# Altium footprint library PCB Footprints.PcbLib: 316 footprints (part 8 of 21)
Each footprint in its own frame and in the unit in brackets; x right, y up, seen from the top. Pads: shape width x height; smd on the part's side, far side on the other; paste and mask are expansions set on the pad; w line width, h text height; cw(c..) or ccw(c..) is an arc to the next point about the centre after c.
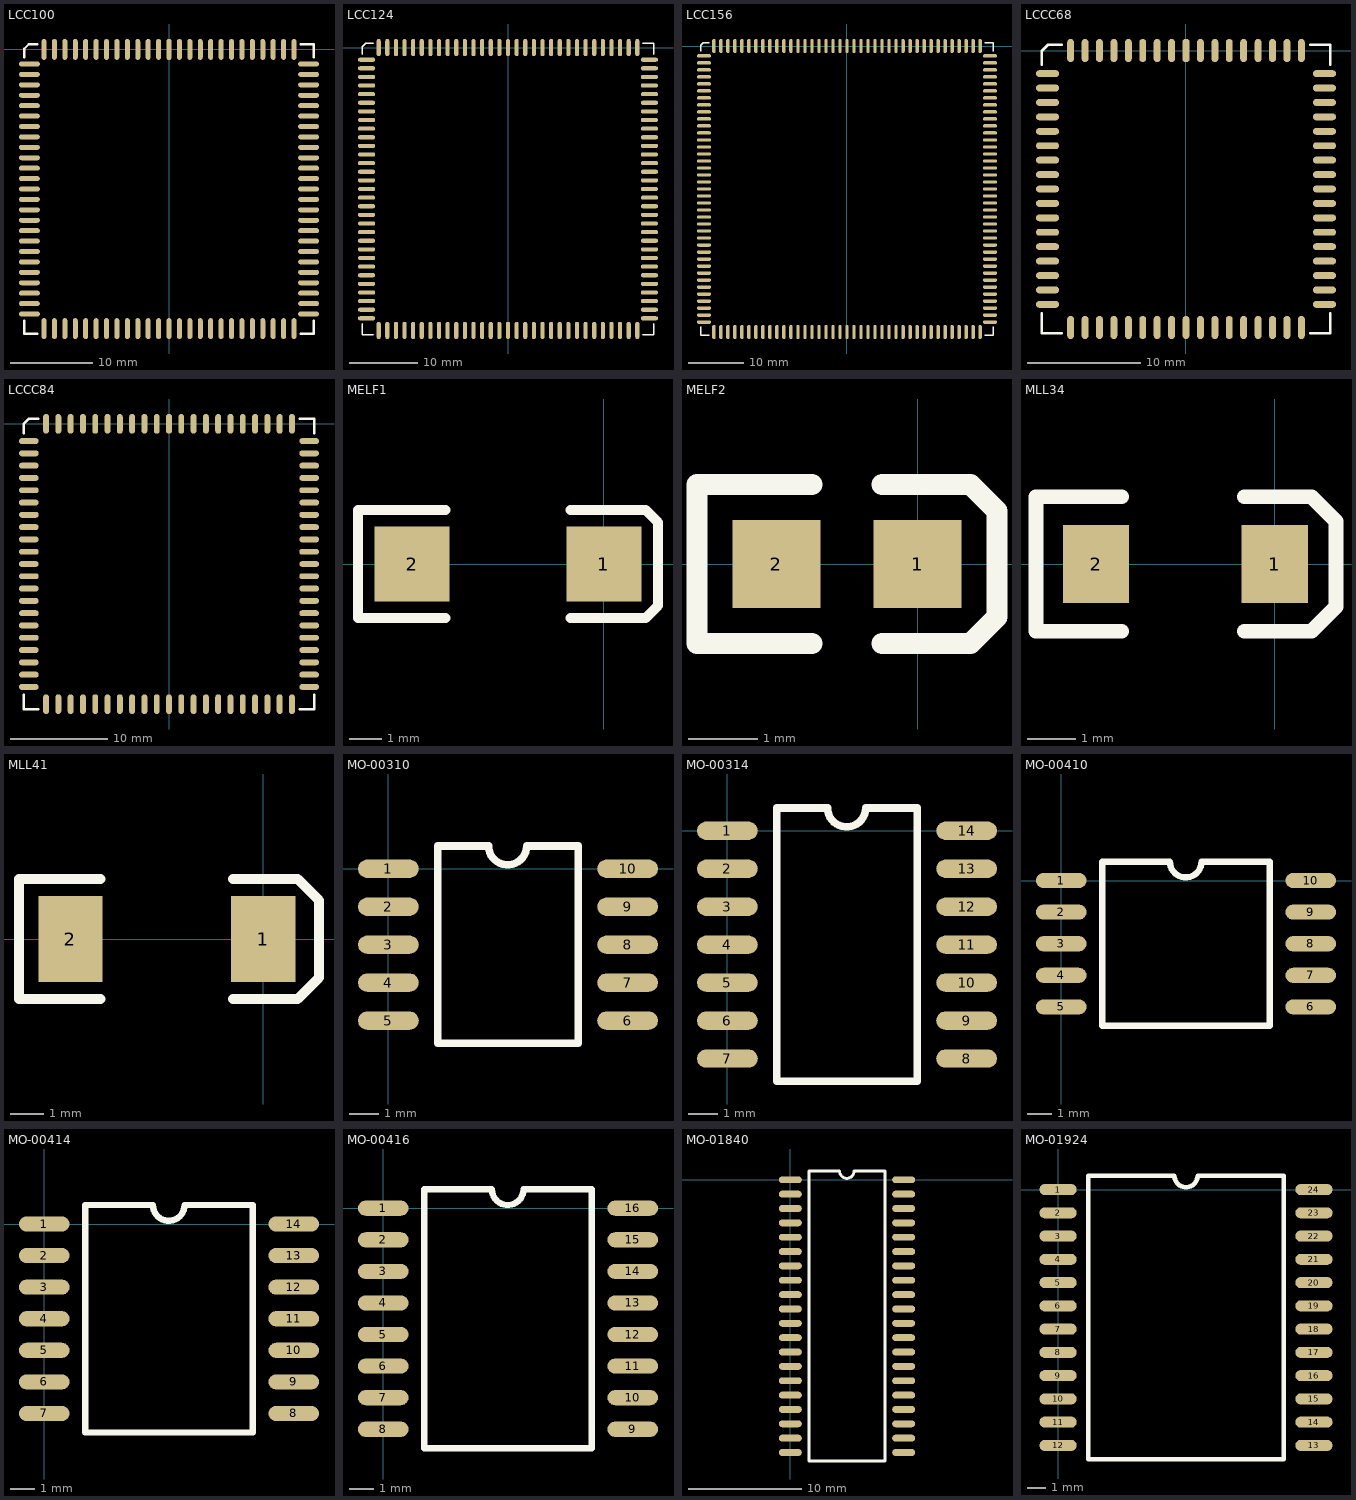
[diagram p7: the footprints below, top view; thin cyan lines are the x and y axes]

## LCC100 [mil]
pads (100):
  oct 24x100 smd: 1(0,0)
  oval 24x100 smd: 2(-50,0) 3(-100,0) 4(-150,0) 5(-200,0) 6(-250,0) 7(-300,0) 8(-350,0) 9(-400,0) 10(-450,0) 11(-500,0) 12(-550,0) 13(-600,0) 39(-600,-1340) 40(-550,-1340) 41(-500,-1340) 42(-450,-1340) 43(-400,-1340) 44(-350,-1340) 45(-300,-1340) 46(-250,-1340) 47(-200,-1340) 48(-150,-1340) 49(-100,-1340) 50(-50,-1340) 51(0,-1340) 52(50,-1340) 53(100,-1340) 54(150,-1340) 55(200,-1340) 56(250,-1340) 57(300,-1340) 58(350,-1340) 59(400,-1340) 60(450,-1340) 61(500,-1340) 62(550,-1340) 63(600,-1340) 89(600,0) 90(550,0) 91(500,0) 92(450,0) 93(400,0) 94(350,0) 95(300,0) 96(250,0) 97(200,0) 98(150,0) 99(100,0) 100(50,0)
  oval 100x24 smd: 14(-670,-70) 15(-670,-120) 16(-670,-170) 17(-670,-220) 18(-670,-270) 19(-670,-320) 20(-670,-370) 21(-670,-420) 22(-670,-470) 23(-670,-520) 24(-670,-570) 25(-670,-620) 26(-670,-670) 27(-670,-720) 28(-670,-770) 29(-670,-820) 30(-670,-870) 31(-670,-920) 32(-670,-970) 33(-670,-1020) 34(-670,-1070) 35(-670,-1120) 36(-670,-1170) 37(-670,-1220) 38(-670,-1270) 64(670,-1270) 65(670,-1220) 66(670,-1170) 67(670,-1120) 68(670,-1070) 69(670,-1020) 70(670,-970) 71(670,-920) 72(670,-870) 73(670,-820) 74(670,-770) 75(670,-720) 76(670,-670) 77(670,-620) 78(670,-570) 79(670,-520) 80(670,-470) 81(670,-420) 82(670,-370) 83(670,-320) 84(670,-270) 85(670,-220) 86(670,-170) 87(670,-120) 88(670,-70)
TopOverlay:
  lines w10: -695,-1302 -695,-1365 -632,-1365 ; -695,-38 -695,4 -674,25 -632,25 ; 632,-1365 695,-1365 695,-1302 ; 632,25 695,25 695,-38

## LCC124 [mil]
pads (124):
  oct 24x100 smd: 1(0,0)
  oval 24x100 smd: 2(-50,0) 3(-100,0) 4(-150,0) 5(-200,0) 6(-250,0) 7(-300,0) 8(-350,0) 9(-400,0) 10(-450,0) 11(-500,0) 12(-550,0) 13(-600,0) 14(-650,0) 15(-700,0) 16(-750,0) 48(-750,-1640) 49(-700,-1640) 50(-650,-1640) 51(-600,-1640) 52(-550,-1640) 53(-500,-1640) 54(-450,-1640) 55(-400,-1640) 56(-350,-1640) 57(-300,-1640) 58(-250,-1640) 59(-200,-1640) 60(-150,-1640) 61(-100,-1640) 62(-50,-1640) 63(0,-1640) 64(50,-1640) 65(100,-1640) 66(150,-1640) 67(200,-1640) 68(250,-1640) 69(300,-1640) 70(350,-1640) 71(400,-1640) 72(450,-1640) 73(500,-1640) 74(550,-1640) 75(600,-1640) 76(650,-1640) 77(700,-1640) 78(750,-1640) 110(750,0) 111(700,0) 112(650,0) 113(600,0) 114(550,0) 115(500,0) 116(450,0) 117(400,0) 118(350,0) 119(300,0) 120(250,0) 121(200,0) 122(150,0) 123(100,0) 124(50,0)
  oval 100x24 smd: 17(-820,-70) 18(-820,-120) 19(-820,-170) 20(-820,-220) 21(-820,-270) 22(-820,-320) 23(-820,-370) 24(-820,-420) 25(-820,-470) 26(-820,-520) 27(-820,-570) 28(-820,-620) 29(-820,-670) 30(-820,-720) 31(-820,-770) 32(-820,-820) 33(-820,-870) 34(-820,-920) 35(-820,-970) 36(-820,-1020) 37(-820,-1070) 38(-820,-1120) 39(-820,-1170) 40(-820,-1220) 41(-820,-1270) 42(-820,-1320) 43(-820,-1370) 44(-820,-1420) 45(-820,-1470) 46(-820,-1520) 47(-820,-1570) 79(820,-1570) 80(820,-1520) 81(820,-1470) 82(820,-1420) 83(820,-1370) 84(820,-1320) 85(820,-1270) 86(820,-1220) 87(820,-1170) 88(820,-1120) 89(820,-1070) 90(820,-1020) 91(820,-970) 92(820,-920) 93(820,-870) 94(820,-820) 95(820,-770) 96(820,-720) 97(820,-670) 98(820,-620) 99(820,-570) 100(820,-520) 101(820,-470) 102(820,-420) 103(820,-370) 104(820,-320) 105(820,-270) 106(820,-220) 107(820,-170) 108(820,-120) 109(820,-70)
TopOverlay:
  lines w10: -845,-1602 -845,-1665 -782,-1665 ; -845,-38 -845,4 -824,25 -782,25 ; 782,-1665 845,-1665 845,-1602 ; 782,25 845,25 845,-38

## LCC156 [mil]
pads (156):
  oct 24x100 smd: 1(0,0)
  oval 24x100 smd: 2(-50,0) 3(-100,0) 4(-150,0) 5(-200,0) 6(-250,0) 7(-300,0) 8(-350,0) 9(-400,0) 10(-450,0) 11(-500,0) 12(-550,0) 13(-600,0) 14(-650,0) 15(-700,0) 16(-750,0) 17(-800,0) 18(-850,0) 19(-900,0) 20(-950,0) 60(-950,-2040) 61(-900,-2040) 62(-850,-2040) 63(-800,-2040) 64(-750,-2040) 65(-700,-2040) 66(-650,-2040) 67(-600,-2040) 68(-550,-2040) 69(-500,-2040) 70(-450,-2040) 71(-400,-2040) 72(-350,-2040) 73(-300,-2040) 74(-250,-2040) 75(-200,-2040) 76(-150,-2040) 77(-100,-2040) 78(-50,-2040) 79(0,-2040) 80(50,-2040) 81(100,-2040) 82(150,-2040) 83(200,-2040) 84(250,-2040) 85(300,-2040) 86(350,-2040) 87(400,-2040) 88(450,-2040) 89(500,-2040) 90(550,-2040) 91(600,-2040) 92(650,-2040) 93(700,-2040) 94(750,-2040) 95(800,-2040) 96(850,-2040) 97(900,-2040) 98(950,-2040) 138(950,0) 139(900,0) 140(850,0) 141(800,0) 142(750,0) 143(700,0) 144(650,0) 145(600,0) 146(550,0) 147(500,0) 148(450,0) 149(400,0) 150(350,0) 151(300,0) 152(250,0) 153(200,0) 154(150,0) 155(100,0) 156(50,0)
  oval 100x24 smd: 21(-1020,-70) 22(-1020,-120) 23(-1020,-170) 24(-1020,-220) 25(-1020,-270) 26(-1020,-320) 27(-1020,-370) 28(-1020,-420) 29(-1020,-470) 30(-1020,-520) 31(-1020,-570) 32(-1020,-620) 33(-1020,-670) 34(-1020,-720) 35(-1020,-770) 36(-1020,-820) 37(-1020,-870) 38(-1020,-920) 39(-1020,-970) 40(-1020,-1020) 41(-1020,-1070) 42(-1020,-1120) 43(-1020,-1170) 44(-1020,-1220) 45(-1020,-1270) 46(-1020,-1320) 47(-1020,-1370) 48(-1020,-1420) 49(-1020,-1470) 50(-1020,-1520) 51(-1020,-1570) 52(-1020,-1620) 53(-1020,-1670) 54(-1020,-1720) 55(-1020,-1770) 56(-1020,-1820) 57(-1020,-1870) 58(-1020,-1920) 59(-1020,-1970) 99(1020,-1970) 100(1020,-1920) 101(1020,-1870) 102(1020,-1820) 103(1020,-1770) 104(1020,-1720) 105(1020,-1670) 106(1020,-1620) 107(1020,-1570) 108(1020,-1520) 109(1020,-1470) 110(1020,-1420) 111(1020,-1370) 112(1020,-1320) 113(1020,-1270) 114(1020,-1220) 115(1020,-1170) 116(1020,-1120) 117(1020,-1070) 118(1020,-1020) 119(1020,-970) 120(1020,-920) 121(1020,-870) 122(1020,-820) 123(1020,-770) 124(1020,-720) 125(1020,-670) 126(1020,-620) 127(1020,-570) 128(1020,-520) 129(1020,-470) 130(1020,-420) 131(1020,-370) 132(1020,-320) 133(1020,-270) 134(1020,-220) 135(1020,-170) 136(1020,-120) 137(1020,-70)
TopOverlay:
  lines w10: -1045,-2002 -1045,-2065 -982,-2065 ; -1045,-38 -1045,4 -1024,25 -982,25 ; 982,-2065 1045,-2065 1045,-2002 ; 982,25 1045,25 1045,-38

## LCCC68 [mil]
pads (68):
  oct 24x80 smd: 1(0,0)
  oval 24x80 smd: 2(-50,0) 3(-100,0) 4(-150,0) 5(-200,0) 6(-250,0) 7(-300,0) 8(-350,0) 9(-400,0) 27(-400,-960) 28(-350,-960) 29(-300,-960) 30(-250,-960) 31(-200,-960) 32(-150,-960) 33(-100,-960) 34(-50,-960) 35(0,-960) 36(50,-960) 37(100,-960) 38(150,-960) 39(200,-960) 40(250,-960) 41(300,-960) 42(350,-960) 43(400,-960) 61(400,0) 62(350,0) 63(300,0) 64(250,0) 65(200,0) 66(150,0) 67(100,0) 68(50,0)
  oval 80x24 smd: 10(-480,-80) 11(-480,-130) 12(-480,-180) 13(-480,-230) 14(-480,-280) 15(-480,-330) 16(-480,-380) 17(-480,-430) 18(-480,-480) 19(-480,-530) 20(-480,-580) 21(-480,-630) 22(-480,-680) 23(-480,-730) 24(-480,-780) 25(-480,-830) 26(-480,-880) 44(480,-880) 45(480,-830) 46(480,-780) 47(480,-730) 48(480,-680) 49(480,-630) 50(480,-580) 51(480,-530) 52(480,-480) 53(480,-430) 54(480,-380) 55(480,-330) 56(480,-280) 57(480,-230) 58(480,-180) 59(480,-130) 60(480,-80)
TopOverlay:
  lines w10: -500,-912 -500,-980 -432,-980 ; -500,-48 -500,-2 -478,20 -432,20 ; 432,-980 500,-980 500,-912 ; 432,20 500,20 500,-48

## LCCC84 [mil]
pads (84):
  oct 24x80 smd: 1(0,0)
  oval 24x80 smd: 2(-50,0) 3(-100,0) 4(-150,0) 5(-200,0) 6(-250,0) 7(-300,0) 8(-350,0) 9(-400,0) 10(-450,0) 11(-500,0) 33(-500,-1140) 34(-450,-1140) 35(-400,-1140) 36(-350,-1140) 37(-300,-1140) 38(-250,-1140) 39(-200,-1140) 40(-150,-1140) 41(-100,-1140) 42(-50,-1140) 43(0,-1140) 44(50,-1140) 45(100,-1140) 46(150,-1140) 47(200,-1140) 48(250,-1140) 49(300,-1140) 50(350,-1140) 51(400,-1140) 52(450,-1140) 53(500,-1140) 75(500,0) 76(450,0) 77(400,0) 78(350,0) 79(300,0) 80(250,0) 81(200,0) 82(150,0) 83(100,0) 84(50,0)
  oval 80x24 smd: 12(-570,-70) 13(-570,-120) 14(-570,-170) 15(-570,-220) 16(-570,-270) 17(-570,-320) 18(-570,-370) 19(-570,-420) 20(-570,-470) 21(-570,-520) 22(-570,-570) 23(-570,-620) 24(-570,-670) 25(-570,-720) 26(-570,-770) 27(-570,-820) 28(-570,-870) 29(-570,-920) 30(-570,-970) 31(-570,-1020) 32(-570,-1070) 54(570,-1070) 55(570,-1020) 56(570,-970) 57(570,-920) 58(570,-870) 59(570,-820) 60(570,-770) 61(570,-720) 62(570,-670) 63(570,-620) 64(570,-570) 65(570,-520) 66(570,-470) 67(570,-420) 68(570,-370) 69(570,-320) 70(570,-270) 71(570,-220) 72(570,-170) 73(570,-120) 74(570,-70)
TopOverlay:
  lines w10: -590,-1102 -590,-1160 -532,-1160 ; -590,-38 -590,1 -571,20 -532,20 ; 532,-1160 590,-1160 590,-1102 ; 532,20 590,20 590,-38

## MELF1 [mil]
pads (2):
  rect 90x90 smd: 1(0,0) 2(-230,0)
TopOverlay:
  lines w12: -190,-65 -295,-65 -295,65 -190,65 ; -40,-65 50,-65 65,-50 65,50 50,65 -40,65

## MELF2 [mil]
pads (2):
  rect 50x50 smd: 1(0,0) 2(-80,0)
TopOverlay:
  lines w12: -60,-45 -125,-45 -125,45 -60,45 ; -20,-45 30,-45 45,-30 45,30 30,45 -20,45

## MLL34 [mil]
pads (2):
  rect 54x64 smd: 1(0,0) 2(-146,0)
TopOverlay:
  lines w12: -125,-55 -195,-55 -195,55 -125,55 ; -25,-55 30,-55 50,-35 50,35 30,55 -25,55

## MLL41 [mil]
pads (2):
  rect 75x100 smd: 1(0,0) 2(-225,0)
TopOverlay:
  lines w12: -190,-70 -285,-70 -285,70 -190,70 ; -35,-70 40,-70 65,-45 65,45 40,70 -35,70

## MO-00310 [mil]
pads (10):
  oval 80x24 smd: 1(0,0) 2(0,-50) 3(0,-100) 4(0,-150) 5(0,-200) 6(315,-200) 7(315,-150) 8(315,-100) 9(315,-50) 10(315,0)
TopOverlay:
  lines w10: 65,-230 65,30 132,30 ccw(c157,30) 182,30 250,30 250,-230 65,-230

## MO-00314 [mil]
pads (14):
  oval 80x24 smd: 1(0,0) 2(0,-50) 3(0,-100) 4(0,-150) 5(0,-200) 6(0,-250) 7(0,-300) 8(315,-300) 9(315,-250) 10(315,-200) 11(315,-150) 12(315,-100) 13(315,-50) 14(315,0)
TopOverlay:
  lines w10: 65,-330 65,30 132,30 ccw(c157,30) 182,30 250,30 250,-330 65,-330

## MO-00410 [mil]
pads (10):
  oval 80x24 smd: 1(0,0) 2(0,-50) 3(0,-100) 4(0,-150) 5(0,-200) 6(395,-200) 7(395,-150) 8(395,-100) 9(395,-50) 10(395,0)
TopOverlay:
  lines w10: 65,-230 65,30 172,30 ccw(c197,30) 222,30 330,30 330,-230 65,-230

## MO-00414 [mil]
pads (14):
  oval 80x24 smd: 1(0,0) 2(0,-50) 3(0,-100) 4(0,-150) 5(0,-200) 6(0,-250) 7(0,-300) 8(395,-300) 9(395,-250) 10(395,-200) 11(395,-150) 12(395,-100) 13(395,-50) 14(395,0)
TopOverlay:
  lines w10: 65,-330 65,30 172,30 ccw(c197,30) 222,30 330,30 330,-330 65,-330

## MO-00416 [mil]
pads (16):
  oval 80x24 smd: 1(0,0) 2(0,-50) 3(0,-100) 4(0,-150) 5(0,-200) 6(0,-250) 7(0,-300) 8(0,-350) 9(395,-350) 10(395,-300) 11(395,-250) 12(395,-200) 13(395,-150) 14(395,-100) 15(395,-50) 16(395,0)
TopOverlay:
  lines w10: 65,-380 65,30 172,30 ccw(c197,30) 222,30 330,30 330,-380 65,-380

## MO-01840 [mil]
pads (40):
  oval 80x24 smd: 1(0,0) 2(0,-50) 3(0,-100) 4(0,-150) 5(0,-200) 6(0,-250) 7(0,-300) 8(0,-350) 9(0,-400) 10(0,-450) 11(0,-500) 12(0,-550) 13(0,-600) 14(0,-650) 15(0,-700) 16(0,-750) 17(0,-800) 18(0,-850) 19(0,-900) 20(0,-950) 21(395,-950) 22(395,-900) 23(395,-850) 24(395,-800) 25(395,-750) 26(395,-700) 27(395,-650) 28(395,-600) 29(395,-550) 30(395,-500) 31(395,-450) 32(395,-400) 33(395,-350) 34(395,-300) 35(395,-250) 36(395,-200) 37(395,-150) 38(395,-100) 39(395,-50) 40(395,0)
TopOverlay:
  lines w10: 65,-980 330,-980 330,30 222,30 cw(c197,30) 172,30 65,30 65,-980

## MO-01924 [mil]
pads (24):
  oval 80x24 smd: 1(0,0) 2(0,-50) 3(0,-100) 4(0,-150) 5(0,-200) 6(0,-250) 7(0,-300) 8(0,-350) 9(0,-400) 10(0,-450) 11(0,-500) 12(0,-550) 13(550,-550) 14(550,-500) 15(550,-450) 16(550,-400) 17(550,-350) 18(550,-300) 19(550,-250) 20(550,-200) 21(550,-150) 22(550,-100) 23(550,-50) 24(550,0)
TopOverlay:
  lines w10: 65,-580 65,30 250,30 ccw(c275,30) 300,30 485,30 485,-580 65,-580